# EAGLE library part ADS7846 (library we-chip)
TI ADS7846 / TSC2046 Touch Screen Controller
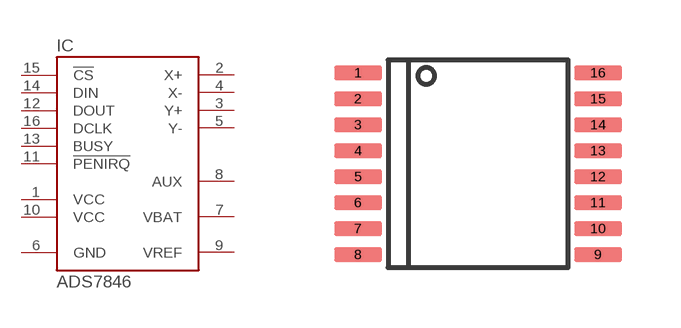
[diagram p1: symbol with the pads of TSSOP16; footprint TSSOP16]

Designator prefix IC

## ADS7846PW (DIGIKEY: TSC2046EIPWR-ND)  [TSSOP16]
1  VCC  pwr
2  X+  in
3  Y+  in
4  X-  in
5  Y-  in
6  GND  pwr
7  VBAT  pas
8  AUX  pas
9  VREF  pas
10  VCC  pwr
11  !PENIRQ  out
12  DOUT
13  BUSY  out
14  DIN  in
15  !CS  in
16  DCLK  in

## Footprint TSSOP16 (pad centres in mm)
smd 1.2 x 0.35: 1 -3,2.275; 2 -3,1.625; 3 -3,0.975; 4 -3,0.325; 5 -3,-0.325; 6 -3,-0.975; 7 -3,-1.625; 8 -3,-2.275; 9 3,-2.275; 10 3,-1.625; 11 3,-0.975; 12 3,-0.325; 13 3,0.325; 14 3,0.975; 15 3,1.625; 16 3,2.275